# EAGLE library part M66FB-03-STD (library M66FB-03-STD)
Quand Band Gsm/Gprs Module M66 R2.0
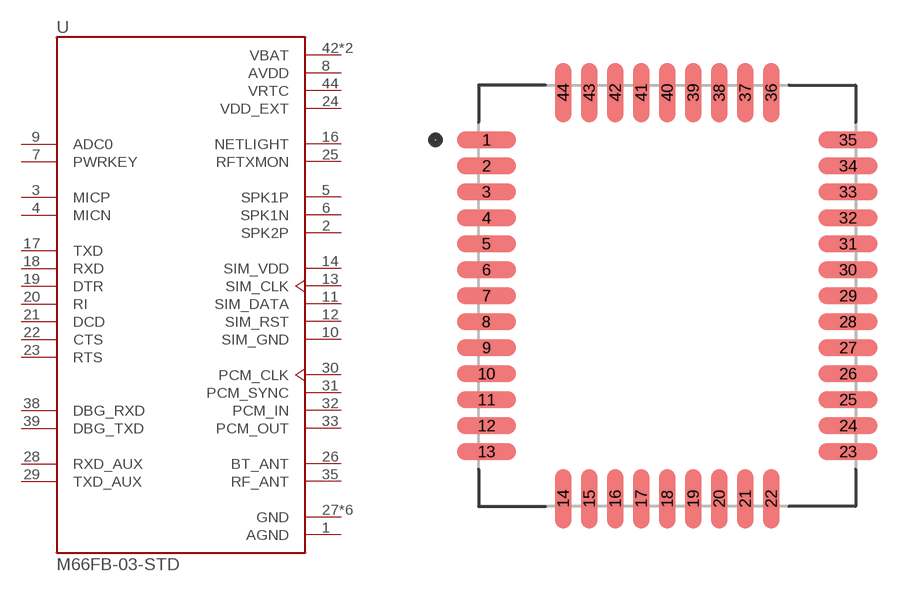
[diagram p0: symbol with the pads of XCVR_M66FB-03-STD; footprint XCVR_M66FB-03-STD]

Designator prefix U

## M66FB-03-STD (Availability: Unavailable; Description: M66 is an ultra-small quad-band GSM/GPRS module using LCC castellation packaging on the market. Based on the latest 2G chipset, it has the optimal performance in SMS & Data transmission and audio service even in harsh environment.; MF: Quectel; MP: M66FB-03-STD; Package: None; Price: None)  [XCVR_M66FB-03-STD]
1  AGND  pwr
2  SPK2P  out
3  MICP  in
4  MICN  in
5  SPK1P  out
6  SPK1N  out
7  PWRKEY  in
8  AVDD  pwr
9  ADC0  in
10  SIM_GND  pwr
11  SIM_DATA
12  SIM_RST  out
13  SIM_CLK  out
14  SIM_VDD  pwr
16  NETLIGHT  out
17  TXD  out
18  RXD  in
19  DTR  in
20  RI  out
21  DCD  out
22  CTS  out
23  RTS  in
24  VDD_EXT  pwr
25  RFTXMON  out
26  BT_ANT
27  GND  pwr
28  RXD_AUX  in
29  TXD_AUX  out
30  PCM_CLK  out
31  PCM_SYNC  out
32  PCM_IN  in
33  PCM_OUT  out
34  GND  pwr
35  RF_ANT
36  GND  pwr
37  GND  pwr
38  DBG_RXD  in
39  DBG_TXD  out
40  GND  pwr
41  GND  pwr
42  VBAT  pwr
43  VBAT  pwr
44  VRTC  pwr

## Footprint XCVR_M66FB-03-STD (pad centres in mm)
smd 2.5 x 0.7: 1 -7.65,6.6; 2 -7.65,5.5; 3 -7.65,4.4; 4 -7.65,3.3; 5 -7.65,2.2; 6 -7.65,1.1; 7 -7.65,0; 8 -7.65,-1.1; 9 -7.65,-2.2; 10 -7.65,-3.3; 11 -7.65,-4.4; 12 -7.65,-5.5; 13 -7.65,-6.6; 23 7.65,-6.6; 24 7.65,-5.5; 25 7.65,-4.4; 26 7.65,-3.3; 27 7.65,-2.2; 28 7.65,-1.1; 29 7.65,0; 30 7.65,1.1; 31 7.65,2.2; 32 7.65,3.3; 33 7.65,4.4; 34 7.65,5.5; 35 7.65,6.6
smd 0.7 x 2.5: 14 -4.4,-8.6; 15 -3.3,-8.6; 16 -2.2,-8.6; 17 -1.1,-8.6; 18 0,-8.6; 19 1.1,-8.6; 20 2.2,-8.6; 21 3.3,-8.6; 22 4.4,-8.6; 36 4.4,8.6; 37 3.3,8.6; 38 2.2,8.6; 39 1.1,8.6; 40 0,8.6; 41 -1.1,8.6; 42 -2.2,8.6; 43 -3.3,8.6; 44 -4.4,8.6